# EAGLE library part XRP7657ED-F (library Exar_By_element14_Batch_1)
Step down regulator
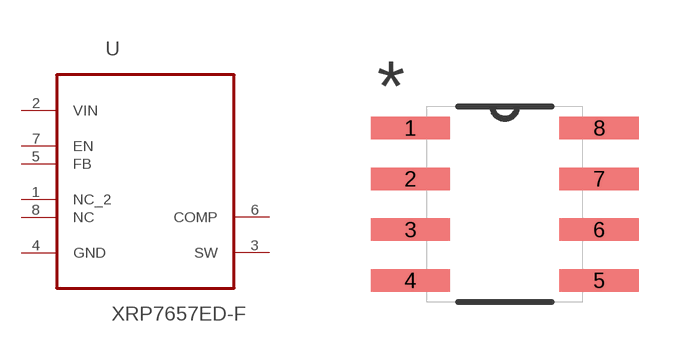
[diagram p101: symbol with the pads of SOIC127P600X175-8N; footprint SOIC127P600X175-8N]

Designator prefix U

## XRP7657ED-F (MPN: XRP7657ED-F; OC_FARNELL: 1829429; OC_NEWARK: -; PACKAGE: SOIC-8; SUPPLIER: Exar)  [SOIC127P600X175-8N]
1  NC_2  nc
2  VIN  pwr
3  SW  out
4  GND  pas
5  FB  in
6  COMP  out
7  EN  in
8  NC  nc

## Footprint SOIC127P600X175-8N (pad centres in mm)
smd 1.981 x 0.559: 1 -2.362,1.905; 2 -2.362,0.635; 3 -2.362,-0.635; 4 -2.362,-1.905; 5 2.362,-1.905; 6 2.362,-0.635; 7 2.362,0.635; 8 2.362,1.905